# Altium footprint library SR4G008.PcbLib: 1 footprints
Each footprint in its own frame and in the unit in brackets; x right, y up, seen from the top. Pads: shape width x height; smd on the part's side, far side on the other; paste and mask are expansions set on the pad; w line width, h text height; cw(c..) or ccw(c..) is an arc to the next point about the centre after c.
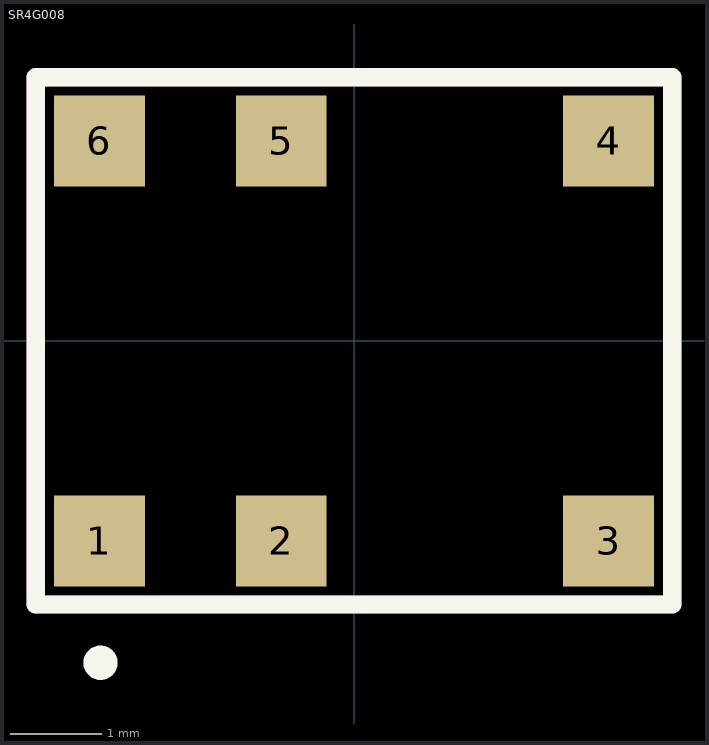
[diagram p0: the footprint, top view; thin cyan lines are the x and y axes]

## SR4G008 [mm]
pads (6):
  rect 1x1 smd: 1(-2.8,-2.2) 2(-0.8,-2.2) 3(2.8,-2.2) 4(2.8,2.2) 5(-0.8,2.2) 6(-2.8,2.2)
Top Overlay:
  circle w0.2: c-2.788,-3.541 r0.089
  lines w0.2: -3.5,-2.9 -3.5,2.9 3.5,2.9 3.5,-2.9 -3.5,-2.9
Mechanical 15:
  lines w0.2: -3.5,-2.9 3.5,-2.9 3.5,2.9 -3.5,2.9 -3.5,-2.9